# EAGLE library part NC7NZ14K8X (library Fairchild_By_element14_Batch_1)
UHS Inverter with Schmitt Trigger Input
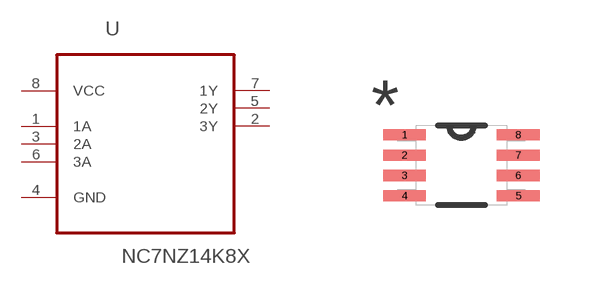
[diagram p341: symbol with the pads of SOP50P310X90-8N; footprint SOP50P310X90-8N]

Designator prefix U

## NC7NZ14K8X (MPN: NC7NZ14K8X; OC_FARNELL: 1417652; OC_NEWARK: 58K1967; PACKAGE: SO-8; SUPPLIER: FAIRCHILD SEMICONDUCTOR)  [SOP50P310X90-8N]
1  1A  in
2  3Y  out
3  2A  in
4  GND  pas
5  2Y  out
6  3A  in
7  1Y  out
8  VCC  pwr

## Footprint SOP50P310X90-8N (pad centres in mm)
smd 1.067 x 0.279: 1 -1.422,0.762; 2 -1.422,0.254; 3 -1.422,-0.254; 4 -1.422,-0.762; 5 1.422,-0.762; 6 1.422,-0.254; 7 1.422,0.254; 8 1.422,0.762